# EAGLE library part JS202011SCQN_JS202011SCQN (library bear_altimeters_lib)
JS Series DPDT On-On Gull Wing Surface Mount Subminiature Slide Switch Check prices <https://pricing.snapeda.com/parts/JS202011SCQN/C%26K/view-part?ref=eda>
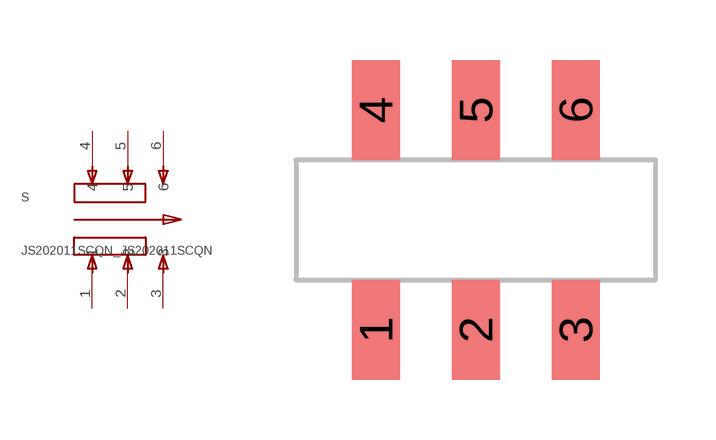
[diagram p12: symbol with the pads of JS202011SCQN_SW_JS202011SCQN; footprint JS202011SCQN_SW_JS202011SCQN]

Designator prefix S

## JS202011SCQN_JS202011SCQN (AVAILABILITY: Good; DESCRIPTION: Slide Switch DPDT Surface Mount; MF: C&K; MP: JS202011SCQN; PACKAGE: None; PRICE: None; PURCHASE-URL: https://pricing.snapeda.com/search/part/JS202011SCQN/?ref=eda)  [JS202011SCQN_SW_JS202011SCQN]
1  1  pas
2  2  pas
3  3  pas
4  4  pas
5  5  pas
6  6  pas

## Footprint JS202011SCQN_SW_JS202011SCQN (pad centres in mm)
smd 1.2 x 2.5: 1 -2.5,-2.75; 2 0,-2.75; 3 2.5,-2.75; 4 -2.5,2.75; 5 0,2.75; 6 2.5,2.75